# Altium schematic symbol library XT60PW-M.SchLib: 1 symbol
Pins are listed as number, name and electrical type; pins without a type are passive.

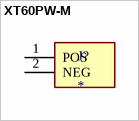
[diagram p0: symbol XT60PW-M]

## XT60PW-M
designator J?
Socket, DC supply, male, PIN: 2; MF: AMASS; MP: XT60PW-M; Check_prices: https://www.snapeda.com/parts/XT60PW-M/AMASS/view-part/?ref=eda; SnapEDA_Link: https://www.snapeda.com/parts/XT60PW-M/AMASS/view-part/?ref=snap; Price: None; Availability: Not in stock; Package: Package; Value: *
footprint AMASS_XT60PW-M
pins: 1 POS, 2 NEG